# EAGLE library part MAX603 (library thomas_library)
The MAX603 is a 3.3v/5v 500mA linear regulator from Maxim IC
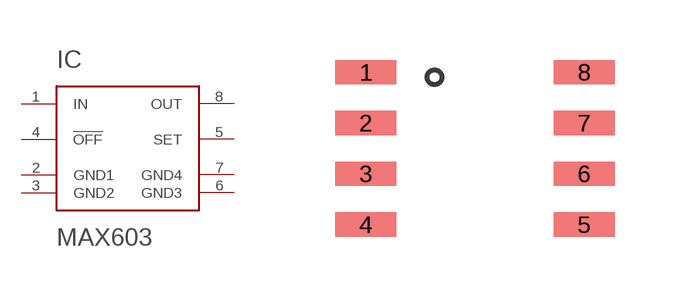
[diagram p12: symbol with the pads of SO_8; footprint SO_8]

Designator prefix IC

## MAX603  [SO_8]
1  IN
2  GND1
3  GND2
4  !OFF
5  SET
6  GND3
7  GND4
8  OUT

## Footprint SO_8 (pad centres in mm)
smd 1.524 x 0.61: 1 -2.731,1.905; 2 -2.731,0.635; 3 -2.731,-0.635; 4 -2.731,-1.905; 5 2.731,-1.905; 6 2.731,-0.635; 7 2.731,0.635; 8 2.731,1.905